# Altium footprint library XT60PT-F .PcbLib: 1 footprints
Each footprint in its own frame and in the unit in brackets; x right, y up, seen from the top. Pads: shape width x height; smd on the part's side, far side on the other; paste and mask are expansions set on the pad; w line width, h text height; cw(c..) or ccw(c..) is an arc to the next point about the centre after c.
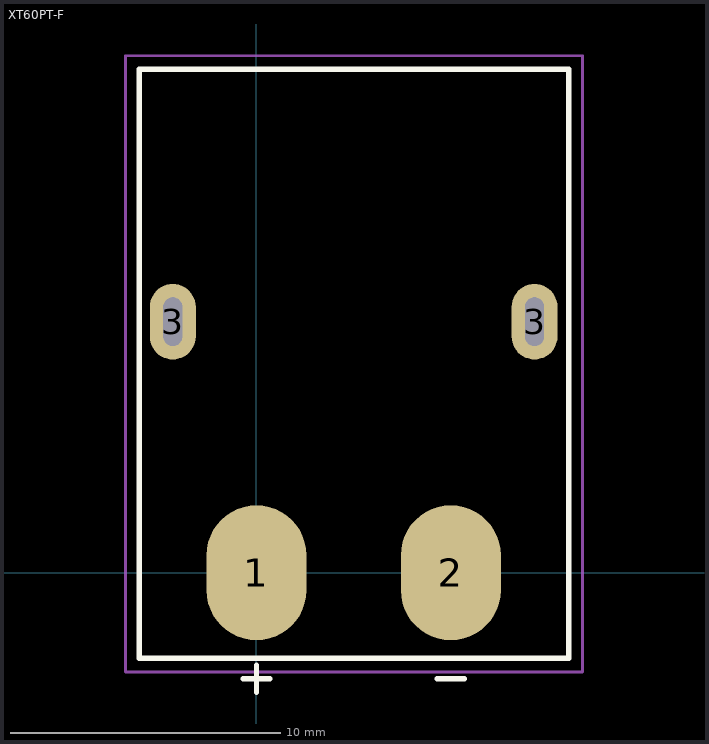
[diagram p0: the footprint, top view; thin cyan lines are the x and y axes]

## XT60PT-F [mm]
pads (4):
  oval 3.7x5 smd: 1(0,0) 2(7.2,0)
  oval 1.7x2.8 hole 0.7 slot 1.8 at 90 deg: 3(-3.1,9.3) 3(10.3,9.3)
Top Overlay:
  lines w0.2: -0.5,-3.925 0.5,-3.925 ; 0,-4.425 0,-3.425 ; 6.7,-3.925 7.7,-3.925 ; -4.35,-3.175 11.575,-3.175 11.575,18.65 -4.35,18.65 -4.35,-3.175
Top Courtyard:
  lines w0.1: -4.85,-3.675 -4.85,19.15 12.075,19.15 12.075,-3.675 -4.35,-3.675 -4.85,-3.675
3D body "User Library-XT60PT-F 3D DRAWING.STEP": height 8.5, standoff -1.5, extent -4.341,-3.153 11.559,18.647